# Altium schematic symbol library SCH-90818_A_Library.SchLib: 53 symbols
Pins are listed as number, name and electrical type; pins without a type are passive.

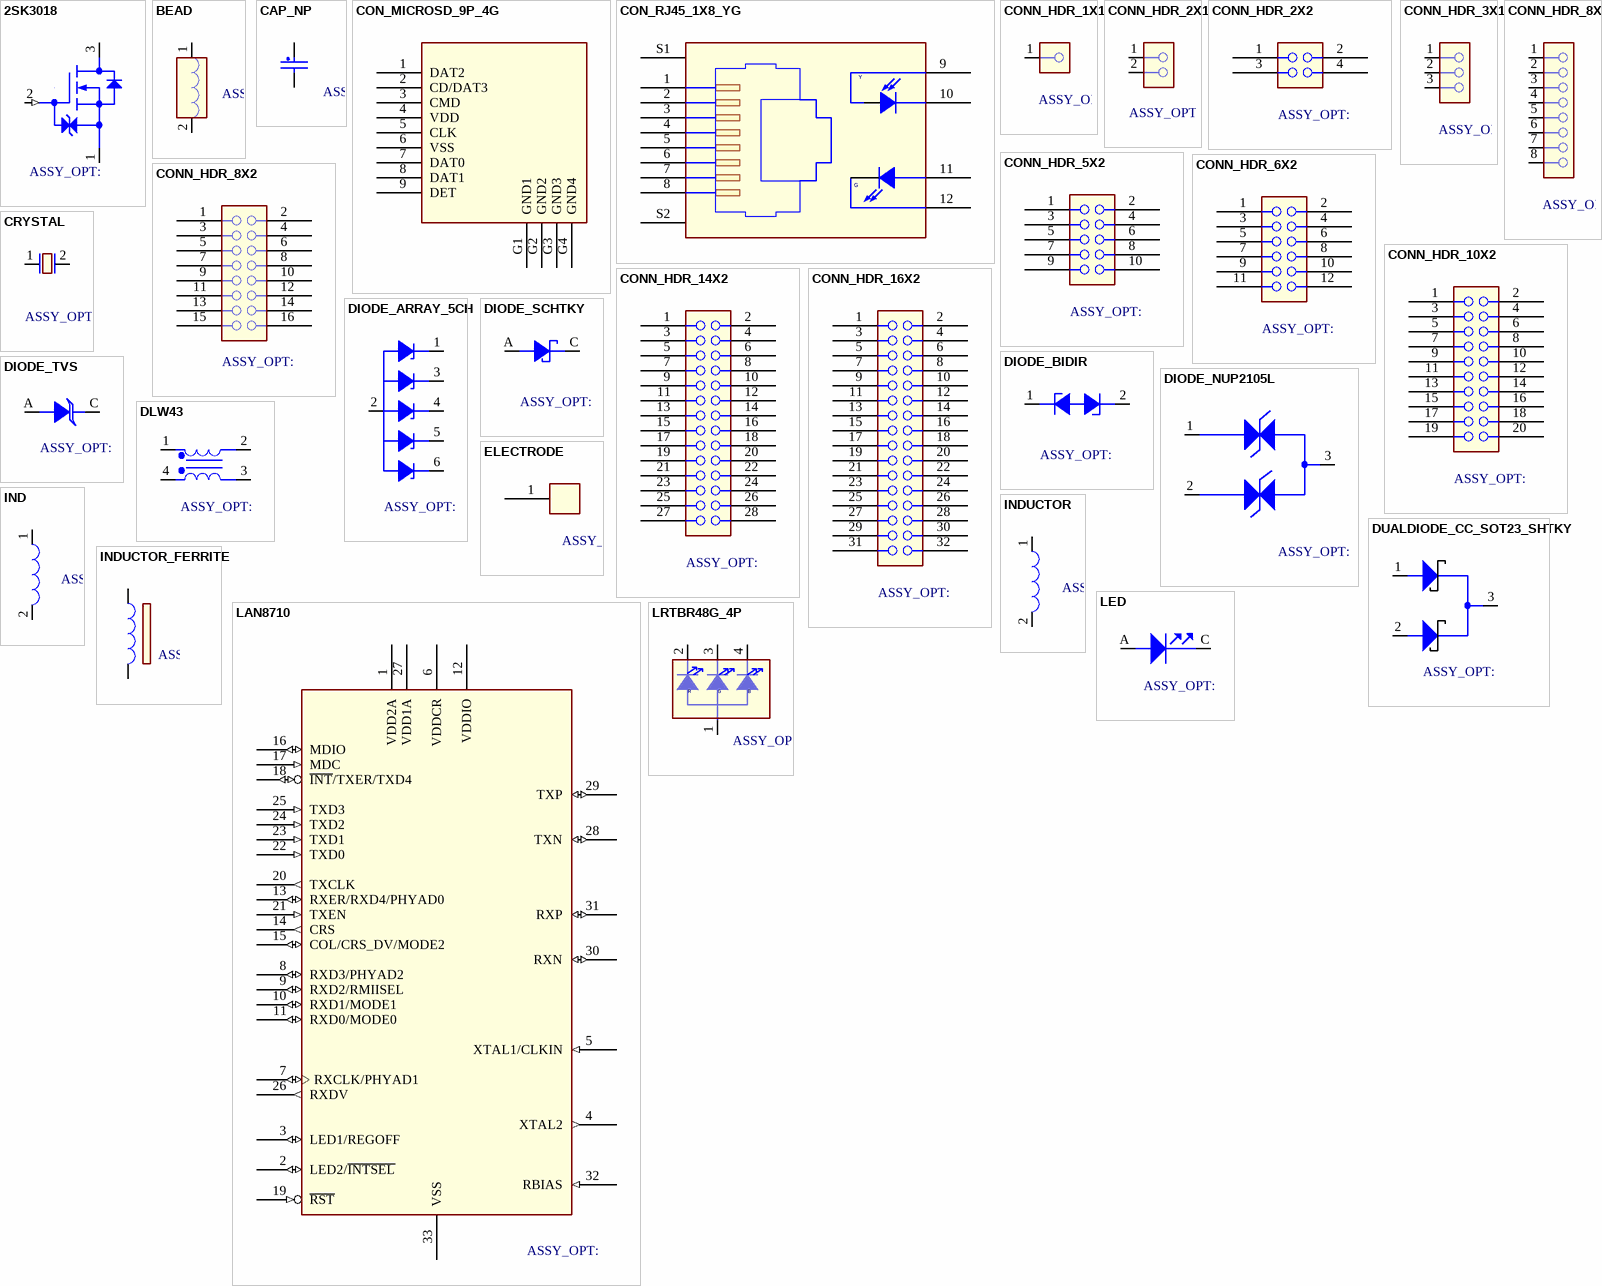
[diagram p0: symbols 2SK3018 to LRTBR48G_4P]

## 2SK3018
designator Q?
CLASS: IC
pins: 1 SOURCE, 2 GATE (in), 3 DRAIN

## BEAD
designator L?
CLASS: DISCRETE
pins: 1, 2

## CAP_NP
designator C?
CLASS: DISCRETE
pins: 1, 2

## CON_MICROSD_9P_4G
designator J?
CLASS: IO
pins: 1 DAT2, 2 CD/DAT3, 3 CMD, 4 VDD (power), 5 CLK, 6 VSS (power), 7 DAT0, 8 DAT1, 9 DET, G1 GND1 (power), G2 GND2 (power), G3 GND3 (power), G4 GND4 (power)

## CON_RJ45_1X8_YG
designator J?
CLASS: IO
pins: 1, 2, 3, 4, 5, 6, 7, 8, 9, 10, 11, 12, S1 SHIELD_1, S2 SHIELD_2
text: Y; G

## CONN_HDR_1X1
designator JP?
CLASS: IO
pins: 1

## CONN_HDR_2X1
designator J?
CLASS: IO
pins: 1, 2

## CONN_HDR_2X2
designator J?
CLASS: IO
pins: 1 A1, 2 B1, 3 A2, 4 B2

## CONN_HDR_3X1
designator J?
CLASS: IO
pins: 1, 2, 3

## CONN_HDR_5X2
designator J?
CLASS: IO
pins: 1 A1, 2 B1, 3 A2, 4 B2, 5 A3, 6 B3, 7 A4, 8 B4, 9 A5, 10 B5

## CONN_HDR_6X2
designator J?
CLASS: IO
pins: 1 A1, 2 B1, 3 A2, 4 B2, 5 A3, 6 B3, 7 A4, 8 B4, 9 A5, 10 B5, 11 A6, 12 B6

## CONN_HDR_8X1
designator J?
CLASS: IO
pins: 1, 2, 3, 4, 5, 6, 7, 8

## CONN_HDR_8X2
designator J?
CLASS: IO
pins: 1 A1, 2 B1, 3 A2, 4 B2, 5 A3, 6 B3, 7 A4, 8 B4, 9 A5, 10 B5, 11 A6, 12 B6, 13 A7, 14 B7, 15 A8, 16 B8

## CONN_HDR_10X2
designator J?
CLASS: IO
pins: 1, 2, 3, 4, 5, 6, 7, 8, 9, 10, 11, 12, 13, 14, 15, 16, 17, 18, 19, 20

## CONN_HDR_14X2
designator J?
CLASS: IO
pins: 1 A1, 2 B1, 3 A2, 4 B2, 5 A3, 6 B3, 7 A4, 8 B4, 9 A5, 10 B5, 11 A6, 12 B6, 13 A7, 14 B7, 15 A8, 16 B8, 17 A9, 18 B9, 19 A10, 20 B10, 21 A11, 22 B11, 23 A12, 24 B12, 25 A13, 26 B13, 27 A14, 28 B14

## CONN_HDR_16X2
designator J?
CLASS: IO
pins: 1 A1, 2 B1, 3 A2, 4 B2, 5 A3, 6 B3, 7 A4, 8 B4, 9 A5, 10 B5, 11 A6, 12 B6, 13 A7, 14 B7, 15 A8, 16 B8, 17 A9, 18 B9, 19 A10, 20 B10, 21 A11, 22 B11, 23 A12, 24 B12, 25 A13, 26 B13, 27 A14, 28 B14, 29 A15, 30 B15, 31 A16, 32 B16

## CRYSTAL
designator QZ?
CLASS: IC
pins: 1, 2

## DIODE_ARRAY_5CH
designator D?
CLASS: IC
pins: 1 K1, 2 A, 3 K2, 4 K3, 5 K4, 6 K5

## DIODE_BIDIR
designator D?
CLASS: IC
pins: 1 C1, 2 C2

## DIODE_NUP2105L
designator D?
CLASS: IC
pins: 1 CATHODE1, 2 CATHODE2, 3 ANODES

## DIODE_SCHTKY
designator D?
CLASS: IC
pins: A, C

## DIODE_TVS
designator D?
CLASS: IC
pins: A, C

## DLW43
designator L?
CLASS: DISCRETE
pins: 1, 2, 3, 4

## DUALDIODE_CC_SOT23_SHTKY
designator D?
CLASS: IC
pins: 1 A1, 2 A2, 3 C

## ELECTRODE
designator E?
CLASS: IC
pins: 1

## IND
designator L?
CLASS: DISCRETE
pins: 1, 2

## INDUCTOR
designator L?
CLASS: DISCRETE
pins: 1, 2

## INDUCTOR_FERRITE
designator L?
CLASS: DISCRETE
pins: 1, 2

## LAN8710
designator U?
CLASS: IC
pins: 1 VDD2A (power), 2 LED2/~{INTSEL} (io), 3 LED1/REGOFF (io), 4 XTAL2 (out), 5 XTAL1/CLKIN (in), 6 VDDCR (power), 7 RXCLK/PHYAD1 (io), 8 RXD3/PHYAD2 (io), 9 RXD2/RMIISEL (io), 10 RXD1/MODE1 (io), 11 RXD0/MODE0 (io), 12 VDDIO (power), 13 RXER/RXD4/PHYAD0 (io), 14 CRS (out), 15 COL/CRS_DV/MODE2 (io), 16 MDIO (io), 17 MDC (in), 18 ~{INT}/TXER/TXD4 (io), 19 ~{RST} (in), 20 TXCLK (out), 21 TXEN (in), 22 TXD0 (in), 23 TXD1 (in), 24 TXD2 (in), 25 TXD3 (in), 26 RXDV (out), 27 VDD1A (power), 28 TXN (io), 29 TXP (io), 30 RXN (io), 31 RXP (io), 32 RBIAS (in), 33 VSS (power)

## LED
designator D?
CLASS: IC
pins: A ANODE, C CATHODE

## LRTBR48G_4P
designator D?
CLASS: IC
pins: 1 ANODE, 2 CATHODE1, 3 CATHODE2, 4 CATHODE3
text: R; G; B

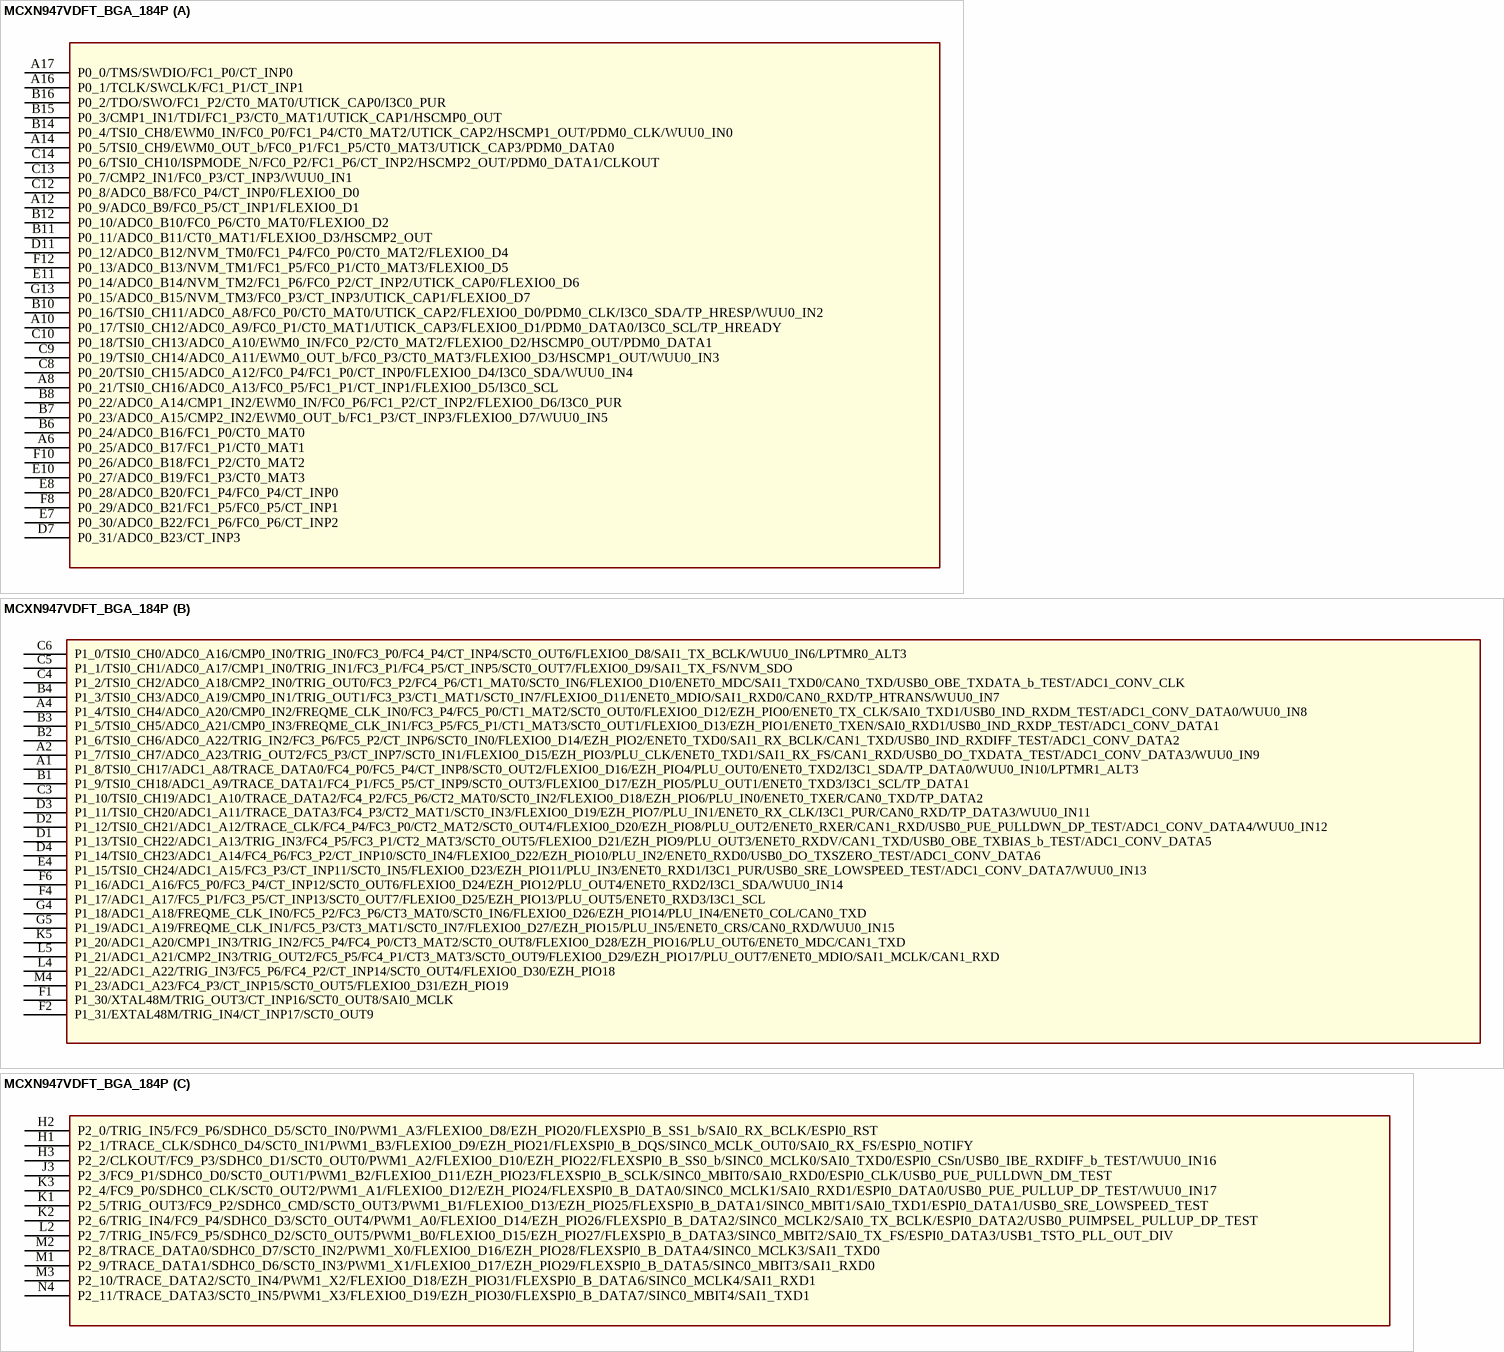
[diagram p1: symbol MCXN947VDFT_BGA_184P]

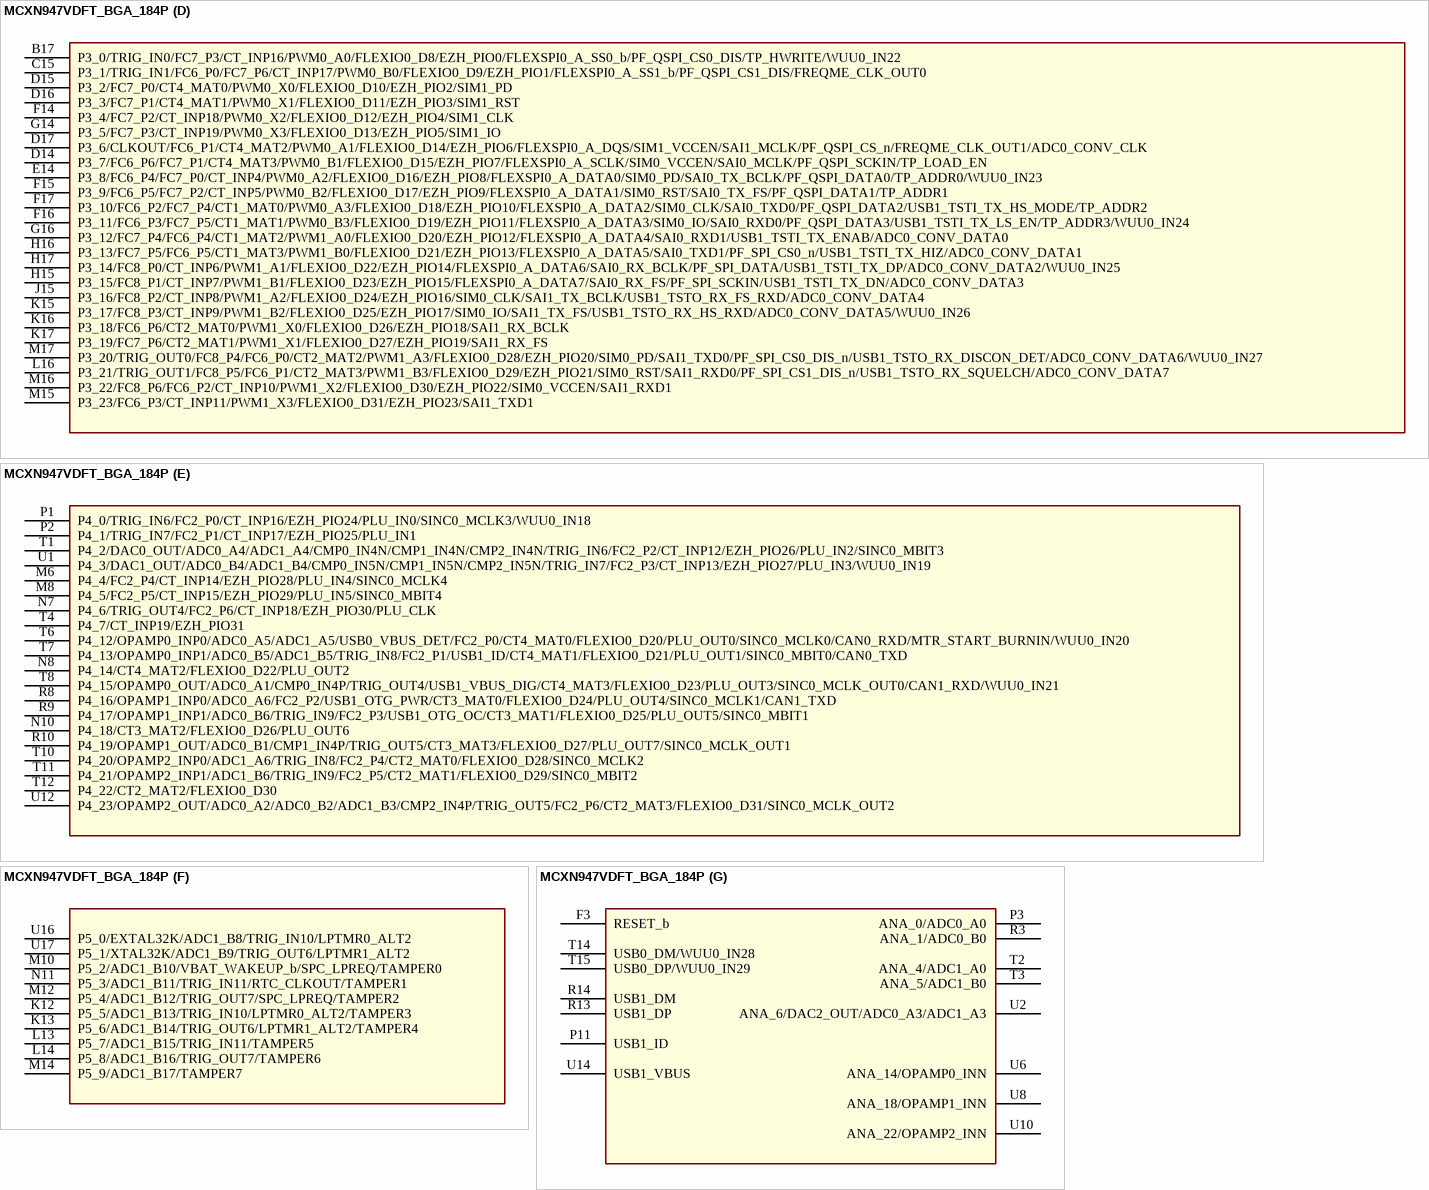
[diagram p2: symbol MCXN947VDFT_BGA_184P]

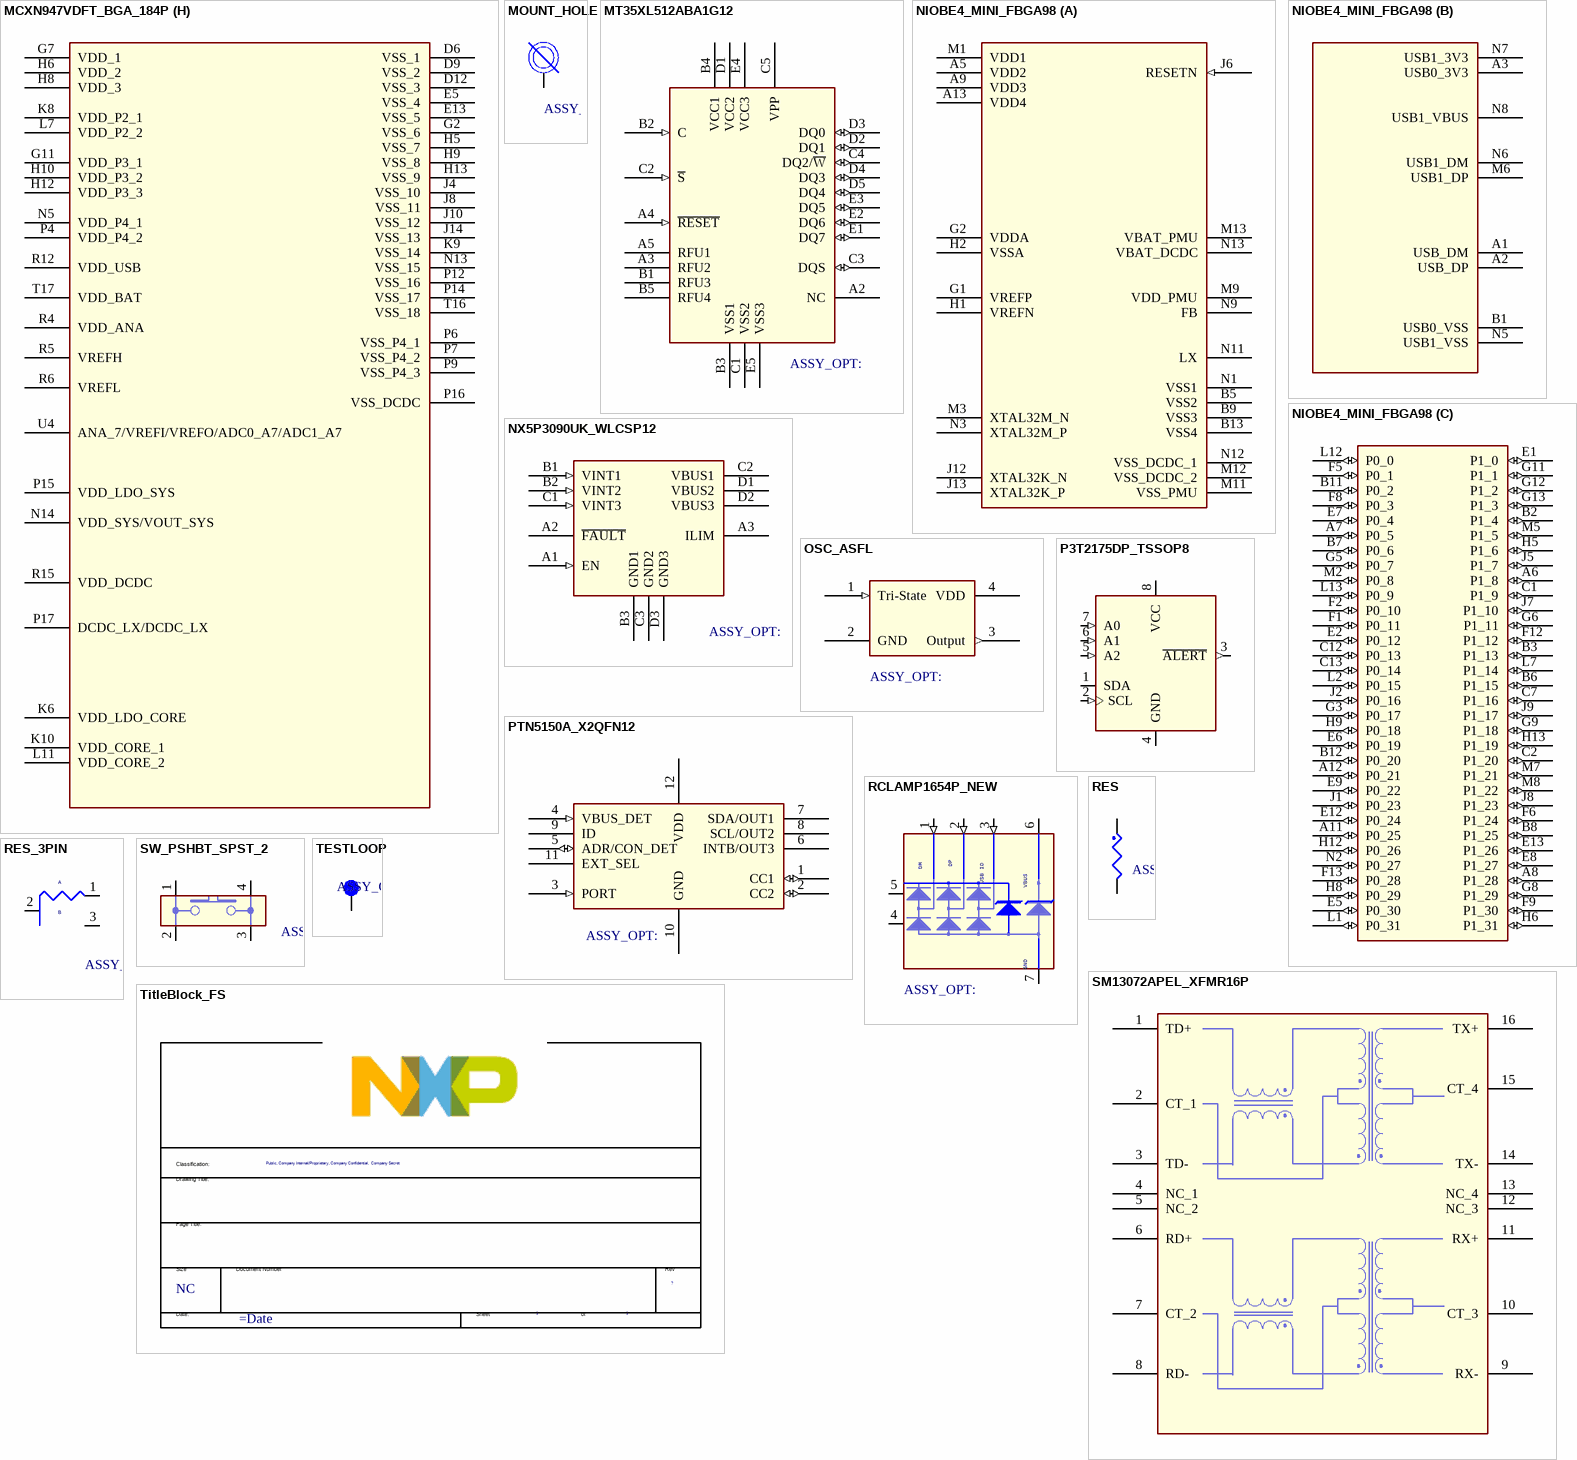
[diagram p3: symbols MCXN947VDFT_BGA_184P to TitleBlock_FS]

## MCXN947VDFT_BGA_184P
designator U?
CLASS: IC; SPLIT_INST: TRUE
part A pins: A6 P0_25/ADC0_B17/FC1_P1/CT0_MAT1, A8 P0_21/TSI0_CH16/ADC0_A13/FC0_P5/FC1_P1/CT_INP1/FLEXIO0_D5/I3C0_SCL, A10 P0_17/TSI0_CH12/ADC0_A9/FC0_P1/CT0_MAT1/UTICK_CAP3/FLEXIO0_D1/PDM0_DATA0/I3C0_SCL/TP_HREADY, A12 P0_9/ADC0_B9/FC0_P5/CT_INP1/FLEXIO0_D1, A14 P0_5/TSI0_CH9/EWM0_OUT_b/FC0_P1/FC1_P5/CT0_MAT3/UTICK_CAP3/PDM0_DATA0, A16 P0_1/TCLK/SWCLK/FC1_P1/CT_INP1, A17 P0_0/TMS/SWDIO/FC1_P0/CT_INP0, B6 P0_24/ADC0_B16/FC1_P0/CT0_MAT0, B7 P0_23/ADC0_A15/CMP2_IN2/EWM0_OUT_b/FC1_P3/CT_INP3/FLEXIO0_D7/WUU0_IN5, B8 P0_22/ADC0_A14/CMP1_IN2/EWM0_IN/FC0_P6/FC1_P2/CT_INP2/FLEXIO0_D6/I3C0_PUR, B10 P0_16/TSI0_CH11/ADC0_A8/FC0_P0/CT0_MAT0/UTICK_CAP2/FLEXIO0_D0/PDM0_CLK/I3C0_SDA/TP_HRESP/WUU0_IN2, B11 P0_11/ADC0_B11/CT0_MAT1/FLEXIO0_D3/HSCMP2_OUT, B12 P0_10/ADC0_B10/FC0_P6/CT0_MAT0/FLEXIO0_D2, B14 P0_4/TSI0_CH8/EWM0_IN/FC0_P0/FC1_P4/CT0_MAT2/UTICK_CAP2/HSCMP1_OUT/PDM0_CLK/WUU0_IN0, B15 P0_3/CMP1_IN1/TDI/FC1_P3/CT0_MAT1/UTICK_CAP1/HSCMP0_OUT, B16 P0_2/TDO/SWO/FC1_P2/CT0_MAT0/UTICK_CAP0/I3C0_PUR, C8 P0_20/TSI0_CH15/ADC0_A12/FC0_P4/FC1_P0/CT_INP0/FLEXIO0_D4/I3C0_SDA/WUU0_IN4, C9 P0_19/TSI0_CH14/ADC0_A11/EWM0_OUT_b/FC0_P3/CT0_MAT3/FLEXIO0_D3/HSCMP1_OUT/WUU0_IN3, C10 P0_18/TSI0_CH13/ADC0_A10/EWM0_IN/FC0_P2/CT0_MAT2/FLEXIO0_D2/HSCMP0_OUT/PDM0_DATA1, C12 P0_8/ADC0_B8/FC0_P4/CT_INP0/FLEXIO0_D0, C13 P0_7/CMP2_IN1/FC0_P3/CT_INP3/WUU0_IN1, C14 P0_6/TSI0_CH10/ISPMODE_N/FC0_P2/FC1_P6/CT_INP2/HSCMP2_OUT/PDM0_DATA1/CLKOUT, D7 P0_31/ADC0_B23/CT_INP3, D11 P0_12/ADC0_B12/NVM_TM0/FC1_P4/FC0_P0/CT0_MAT2/FLEXIO0_D4, E7 P0_30/ADC0_B22/FC1_P6/FC0_P6/CT_INP2, E8 P0_28/ADC0_B20/FC1_P4/FC0_P4/CT_INP0, E10 P0_27/ADC0_B19/FC1_P3/CT0_MAT3, E11 P0_14/ADC0_B14/NVM_TM2/FC1_P6/FC0_P2/CT_INP2/UTICK_CAP0/FLEXIO0_D6, F8 P0_29/ADC0_B21/FC1_P5/FC0_P5/CT_INP1, F10 P0_26/ADC0_B18/FC1_P2/CT0_MAT2, F12 P0_13/ADC0_B13/NVM_TM1/FC1_P5/FC0_P1/CT0_MAT3/FLEXIO0_D5, G13 P0_15/ADC0_B15/NVM_TM3/FC0_P3/CT_INP3/UTICK_CAP1/FLEXIO0_D7
part B pins: A1 P1_8/TSI0_CH17/ADC1_A8/TRACE_DATA0/FC4_P0/FC5_P4/CT_INP8/SCT0_OUT2/FLEXIO0_D16/EZH_PIO4/PLU_OUT0/ENET0_TXD2/I3C1_SDA/TP_DATA0/WUU0_IN10/LPTMR1_ALT3, A2 P1_7/TSI0_CH7/ADC0_A23/TRIG_OUT2/FC5_P3/CT_INP7/SCT0_IN1/FLEXIO0_D15/EZH_PIO3/PLU_CLK/ENET0_TXD1/SAI1_RX_FS/CAN1_RXD/USB0_DO_TXDATA_TEST/ADC1_CONV_DATA3/WUU0_IN9, A4 P1_4/TSI0_CH4/ADC0_A20/CMP0_IN2/FREQME_CLK_IN0/FC3_P4/FC5_P0/CT1_MAT2/SCT0_OUT0/FLEXIO0_D12/EZH_PIO0/ENET0_TX_CLK/SAI0_TXD1/USB0_IND_RXDM_TEST/ADC1_CONV_DATA0/WUU0_IN8, B1 P1_9/TSI0_CH18/ADC1_A9/TRACE_DATA1/FC4_P1/FC5_P5/CT_INP9/SCT0_OUT3/FLEXIO0_D17/EZH_PIO5/PLU_OUT1/ENET0_TXD3/I3C1_SCL/TP_DATA1, B2 P1_6/TSI0_CH6/ADC0_A22/TRIG_IN2/FC3_P6/FC5_P2/CT_INP6/SCT0_IN0/FLEXIO0_D14/EZH_PIO2/ENET0_TXD0/SAI1_RX_BCLK/CAN1_TXD/USB0_IND_RXDIFF_TEST/ADC1_CONV_DATA2, B3 P1_5/TSI0_CH5/ADC0_A21/CMP0_IN3/FREQME_CLK_IN1/FC3_P5/FC5_P1/CT1_MAT3/SCT0_OUT1/FLEXIO0_D13/EZH_PIO1/ENET0_TXEN/SAI0_RXD1/USB0_IND_RXDP_TEST/ADC1_CONV_DATA1, B4 P1_3/TSI0_CH3/ADC0_A19/CMP0_IN1/TRIG_OUT1/FC3_P3/CT1_MAT1/SCT0_IN7/FLEXIO0_D11/ENET0_MDIO/SAI1_RXD0/CAN0_RXD/TP_HTRANS/WUU0_IN7, C3 P1_10/TSI0_CH19/ADC1_A10/TRACE_DATA2/FC4_P2/FC5_P6/CT2_MAT0/SCT0_IN2/FLEXIO0_D18/EZH_PIO6/PLU_IN0/ENET0_TXER/CAN0_TXD/TP_DATA2, C4 P1_2/TSI0_CH2/ADC0_A18/CMP2_IN0/TRIG_OUT0/FC3_P2/FC4_P6/CT1_MAT0/SCT0_IN6/FLEXIO0_D10/ENET0_MDC/SAI1_TXD0/CAN0_TXD/USB0_OBE_TXDATA_b_TEST/ADC1_CONV_CLK, C5 P1_1/TSI0_CH1/ADC0_A17/CMP1_IN0/TRIG_IN1/FC3_P1/FC4_P5/CT_INP5/SCT0_OUT7/FLEXIO0_D9/SAI1_TX_FS/NVM_SDO, C6 P1_0/TSI0_CH0/ADC0_A16/CMP0_IN0/TRIG_IN0/FC3_P0/FC4_P4/CT_INP4/SCT0_OUT6/FLEXIO0_D8/SAI1_TX_BCLK/WUU0_IN6/LPTMR0_ALT3, D1 P1_13/TSI0_CH22/ADC1_A13/TRIG_IN3/FC4_P5/FC3_P1/CT2_MAT3/SCT0_OUT5/FLEXIO0_D21/EZH_PIO9/PLU_OUT3/ENET0_RXDV/CAN1_TXD/USB0_OBE_TXBIAS_b_TEST/ADC1_CONV_DATA5, D2 P1_12/TSI0_CH21/ADC1_A12/TRACE_CLK/FC4_P4/FC3_P0/CT2_MAT2/SCT0_OUT4/FLEXIO0_D20/EZH_PIO8/PLU_OUT2/ENET0_RXER/CAN1_RXD/USB0_PUE_PULLDWN_DP_TEST/ADC1_CONV_DATA4/WUU0_IN12, D3 P1_11/TSI0_CH20/ADC1_A11/TRACE_DATA3/FC4_P3/CT2_MAT1/SCT0_IN3/FLEXIO0_D19/EZH_PIO7/PLU_IN1/ENET0_RX_CLK/I3C1_PUR/CAN0_RXD/TP_DATA3/WUU0_IN11, D4 P1_14/TSI0_CH23/ADC1_A14/FC4_P6/FC3_P2/CT_INP10/SCT0_IN4/FLEXIO0_D22/EZH_PIO10/PLU_IN2/ENET0_RXD0/USB0_DO_TXSZERO_TEST/ADC1_CONV_DATA6, E4 P1_15/TSI0_CH24/ADC1_A15/FC3_P3/CT_INP11/SCT0_IN5/FLEXIO0_D23/EZH_PIO11/PLU_IN3/ENET0_RXD1/I3C1_PUR/USB0_SRE_LOWSPEED_TEST/ADC1_CONV_DATA7/WUU0_IN13, F1 P1_30/XTAL48M/TRIG_OUT3/CT_INP16/SCT0_OUT8/SAI0_MCLK, F2 P1_31/EXTAL48M/TRIG_IN4/CT_INP17/SCT0_OUT9, F4 P1_17/ADC1_A17/FC5_P1/FC3_P5/CT_INP13/SCT0_OUT7/FLEXIO0_D25/EZH_PIO13/PLU_OUT5/ENET0_RXD3/I3C1_SCL, F6 P1_16/ADC1_A16/FC5_P0/FC3_P4/CT_INP12/SCT0_OUT6/FLEXIO0_D24/EZH_PIO12/PLU_OUT4/ENET0_RXD2/I3C1_SDA/WUU0_IN14, G4 P1_18/ADC1_A18/FREQME_CLK_IN0/FC5_P2/FC3_P6/CT3_MAT0/SCT0_IN6/FLEXIO0_D26/EZH_PIO14/PLU_IN4/ENET0_COL/CAN0_TXD, G5 P1_19/ADC1_A19/FREQME_CLK_IN1/FC5_P3/CT3_MAT1/SCT0_IN7/FLEXIO0_D27/EZH_PIO15/PLU_IN5/ENET0_CRS/CAN0_RXD/WUU0_IN15, K5 P1_20/ADC1_A20/CMP1_IN3/TRIG_IN2/FC5_P4/FC4_P0/CT3_MAT2/SCT0_OUT8/FLEXIO0_D28/EZH_PIO16/PLU_OUT6/ENET0_MDC/CAN1_TXD, L4 P1_22/ADC1_A22/TRIG_IN3/FC5_P6/FC4_P2/CT_INP14/SCT0_OUT4/FLEXIO0_D30/EZH_PIO18, L5 P1_21/ADC1_A21/CMP2_IN3/TRIG_OUT2/FC5_P5/FC4_P1/CT3_MAT3/SCT0_OUT9/FLEXIO0_D29/EZH_PIO17/PLU_OUT7/ENET0_MDIO/SAI1_MCLK/CAN1_RXD, M4 P1_23/ADC1_A23/FC4_P3/CT_INP15/SCT0_OUT5/FLEXIO0_D31/EZH_PIO19
part C pins: H1 P2_1/TRACE_CLK/SDHC0_D4/SCT0_IN1/PWM1_B3/FLEXIO0_D9/EZH_PIO21/FLEXSPI0_B_DQS/SINC0_MCLK_OUT0/SAI0_RX_FS/ESPI0_NOTIFY, H2 P2_0/TRIG_IN5/FC9_P6/SDHC0_D5/SCT0_IN0/PWM1_A3/FLEXIO0_D8/EZH_PIO20/FLEXSPI0_B_SS1_b/SAI0_RX_BCLK/ESPI0_RST, H3 P2_2/CLKOUT/FC9_P3/SDHC0_D1/SCT0_OUT0/PWM1_A2/FLEXIO0_D10/EZH_PIO22/FLEXSPI0_B_SS0_b/SINC0_MCLK0/SAI0_TXD0/ESPI0_CSn/USB0_IBE_RXDIFF_b_TEST/WUU0_IN16, J3 P2_3/FC9_P1/SDHC0_D0/SCT0_OUT1/PWM1_B2/FLEXIO0_D11/EZH_PIO23/FLEXSPI0_B_SCLK/SINC0_MBIT0/SAI0_RXD0/ESPI0_CLK/USB0_PUE_PULLDWN_DM_TEST, K1 P2_5/TRIG_OUT3/FC9_P2/SDHC0_CMD/SCT0_OUT3/PWM1_B1/FLEXIO0_D13/EZH_PIO25/FLEXSPI0_B_DATA1/SINC0_MBIT1/SAI0_TXD1/ESPI0_DATA1/USB0_SRE_LOWSPEED_TEST, K2 P2_6/TRIG_IN4/FC9_P4/SDHC0_D3/SCT0_OUT4/PWM1_A0/FLEXIO0_D14/EZH_PIO26/FLEXSPI0_B_DATA2/SINC0_MCLK2/SAI0_TX_BCLK/ESPI0_DATA2/USB0_PUIMPSEL_PULLUP_DP_TEST, K3 P2_4/FC9_P0/SDHC0_CLK/SCT0_OUT2/PWM1_A1/FLEXIO0_D12/EZH_PIO24/FLEXSPI0_B_DATA0/SINC0_MCLK1/SAI0_RXD1/ESPI0_DATA0/USB0_PUE_PULLUP_DP_TEST/WUU0_IN17, L2 P2_7/TRIG_IN5/FC9_P5/SDHC0_D2/SCT0_OUT5/PWM1_B0/FLEXIO0_D15/EZH_PIO27/FLEXSPI0_B_DATA3/SINC0_MBIT2/SAI0_TX_FS/ESPI0_DATA3/USB1_TSTO_PLL_OUT_DIV, M1 P2_9/TRACE_DATA1/SDHC0_D6/SCT0_IN3/PWM1_X1/FLEXIO0_D17/EZH_PIO29/FLEXSPI0_B_DATA5/SINC0_MBIT3/SAI1_RXD0, M2 P2_8/TRACE_DATA0/SDHC0_D7/SCT0_IN2/PWM1_X0/FLEXIO0_D16/EZH_PIO28/FLEXSPI0_B_DATA4/SINC0_MCLK3/SAI1_TXD0, M3 P2_10/TRACE_DATA2/SCT0_IN4/PWM1_X2/FLEXIO0_D18/EZH_PIO31/FLEXSPI0_B_DATA6/SINC0_MCLK4/SAI1_RXD1, N4 P2_11/TRACE_DATA3/SCT0_IN5/PWM1_X3/FLEXIO0_D19/EZH_PIO30/FLEXSPI0_B_DATA7/SINC0_MBIT4/SAI1_TXD1
part D pins: B17 P3_0/TRIG_IN0/FC7_P3/CT_INP16/PWM0_A0/FLEXIO0_D8/EZH_PIO0/FLEXSPI0_A_SS0_b/PF_QSPI_CS0_DIS/TP_HWRITE/WUU0_IN22, C15 P3_1/TRIG_IN1/FC6_P0/FC7_P6/CT_INP17/PWM0_B0/FLEXIO0_D9/EZH_PIO1/FLEXSPI0_A_SS1_b/PF_QSPI_CS1_DIS/FREQME_CLK_OUT0, D14 P3_7/FC6_P6/FC7_P1/CT4_MAT3/PWM0_B1/FLEXIO0_D15/EZH_PIO7/FLEXSPI0_A_SCLK/SIM0_VCCEN/SAI0_MCLK/PF_QSPI_SCKIN/TP_LOAD_EN, D15 P3_2/FC7_P0/CT4_MAT0/PWM0_X0/FLEXIO0_D10/EZH_PIO2/SIM1_PD, D16 P3_3/FC7_P1/CT4_MAT1/PWM0_X1/FLEXIO0_D11/EZH_PIO3/SIM1_RST, D17 P3_6/CLKOUT/FC6_P1/CT4_MAT2/PWM0_A1/FLEXIO0_D14/EZH_PIO6/FLEXSPI0_A_DQS/SIM1_VCCEN/SAI1_MCLK/PF_QSPI_CS_n/FREQME_CLK_OUT1/ADC0_CONV_CLK, E14 P3_8/FC6_P4/FC7_P0/CT_INP4/PWM0_A2/FLEXIO0_D16/EZH_PIO8/FLEXSPI0_A_DATA0/SIM0_PD/SAI0_TX_BCLK/PF_QSPI_DATA0/TP_ADDR0/WUU0_IN23, F14 P3_4/FC7_P2/CT_INP18/PWM0_X2/FLEXIO0_D12/EZH_PIO4/SIM1_CLK, F15 P3_9/FC6_P5/FC7_P2/CT_INP5/PWM0_B2/FLEXIO0_D17/EZH_PIO9/FLEXSPI0_A_DATA1/SIM0_RST/SAI0_TX_FS/PF_QSPI_DATA1/TP_ADDR1, F16 P3_11/FC6_P3/FC7_P5/CT1_MAT1/PWM0_B3/FLEXIO0_D19/EZH_PIO11/FLEXSPI0_A_DATA3/SIM0_IO/SAI0_RXD0/PF_QSPI_DATA3/USB1_TSTI_TX_LS_EN/TP_ADDR3/WUU0_IN24, F17 P3_10/FC6_P2/FC7_P4/CT1_MAT0/PWM0_A3/FLEXIO0_D18/EZH_PIO10/FLEXSPI0_A_DATA2/SIM0_CLK/SAI0_TXD0/PF_QSPI_DATA2/USB1_TSTI_TX_HS_MODE/TP_ADDR2, G14 P3_5/FC7_P3/CT_INP19/PWM0_X3/FLEXIO0_D13/EZH_PIO5/SIM1_IO, G16 P3_12/FC7_P4/FC6_P4/CT1_MAT2/PWM1_A0/FLEXIO0_D20/EZH_PIO12/FLEXSPI0_A_DATA4/SAI0_RXD1/USB1_TSTI_TX_ENAB/ADC0_CONV_DATA0, H15 P3_15/FC8_P1/CT_INP7/PWM1_B1/FLEXIO0_D23/EZH_PIO15/FLEXSPI0_A_DATA7/SAI0_RX_FS/PF_SPI_SCKIN/USB1_TSTI_TX_DN/ADC0_CONV_DATA3, H16 P3_13/FC7_P5/FC6_P5/CT1_MAT3/PWM1_B0/FLEXIO0_D21/EZH_PIO13/FLEXSPI0_A_DATA5/SAI0_TXD1/PF_SPI_CS0_n/USB1_TSTI_TX_HIZ/ADC0_CONV_DATA1, H17 P3_14/FC8_P0/CT_INP6/PWM1_A1/FLEXIO0_D22/EZH_PIO14/FLEXSPI0_A_DATA6/SAI0_RX_BCLK/PF_SPI_DATA/USB1_TSTI_TX_DP/ADC0_CONV_DATA2/WUU0_IN25, J15 P3_16/FC8_P2/CT_INP8/PWM1_A2/FLEXIO0_D24/EZH_PIO16/SIM0_CLK/SAI1_TX_BCLK/USB1_TSTO_RX_FS_RXD/ADC0_CONV_DATA4, K15 P3_17/FC8_P3/CT_INP9/PWM1_B2/FLEXIO0_D25/EZH_PIO17/SIM0_IO/SAI1_TX_FS/USB1_TSTO_RX_HS_RXD/ADC0_CONV_DATA5/WUU0_IN26, K16 P3_18/FC6_P6/CT2_MAT0/PWM1_X0/FLEXIO0_D26/EZH_PIO18/SAI1_RX_BCLK, K17 P3_19/FC7_P6/CT2_MAT1/PWM1_X1/FLEXIO0_D27/EZH_PIO19/SAI1_RX_FS, L16 P3_21/TRIG_OUT1/FC8_P5/FC6_P1/CT2_MAT3/PWM1_B3/FLEXIO0_D29/EZH_PIO21/SIM0_RST/SAI1_RXD0/PF_SPI_CS1_DIS_n/USB1_TSTO_RX_SQUELCH/ADC0_CONV_DATA7, M15 P3_23/FC6_P3/CT_INP11/PWM1_X3/FLEXIO0_D31/EZH_PIO23/SAI1_TXD1, M16 P3_22/FC8_P6/FC6_P2/CT_INP10/PWM1_X2/FLEXIO0_D30/EZH_PIO22/SIM0_VCCEN/SAI1_RXD1, M17 P3_20/TRIG_OUT0/FC8_P4/FC6_P0/CT2_MAT2/PWM1_A3/FLEXIO0_D28/EZH_PIO20/SIM0_PD/SAI1_TXD0/PF_SPI_CS0_DIS_n/USB1_TSTO_RX_DISCON_DET/ADC0_CONV_DATA6/WUU0_IN27
part E pins: M6 P4_4/FC2_P4/CT_INP14/EZH_PIO28/PLU_IN4/SINC0_MCLK4, M8 P4_5/FC2_P5/CT_INP15/EZH_PIO29/PLU_IN5/SINC0_MBIT4, N7 P4_6/TRIG_OUT4/FC2_P6/CT_INP18/EZH_PIO30/PLU_CLK, N8 P4_14/CT4_MAT2/FLEXIO0_D22/PLU_OUT2, N10 P4_18/CT3_MAT2/FLEXIO0_D26/PLU_OUT6, P1 P4_0/TRIG_IN6/FC2_P0/CT_INP16/EZH_PIO24/PLU_IN0/SINC0_MCLK3/WUU0_IN18, P2 P4_1/TRIG_IN7/FC2_P1/CT_INP17/EZH_PIO25/PLU_IN1, R8 P4_16/OPAMP1_INP0/ADC0_A6/FC2_P2/USB1_OTG_PWR/CT3_MAT0/FLEXIO0_D24/PLU_OUT4/SINC0_MCLK1/CAN1_TXD, R9 P4_17/OPAMP1_INP1/ADC0_B6/TRIG_IN9/FC2_P3/USB1_OTG_OC/CT3_MAT1/FLEXIO0_D25/PLU_OUT5/SINC0_MBIT1, R10 P4_19/OPAMP1_OUT/ADC0_B1/CMP1_IN4P/TRIG_OUT5/CT3_MAT3/FLEXIO0_D27/PLU_OUT7/SINC0_MCLK_OUT1, T1 P4_2/DAC0_OUT/ADC0_A4/ADC1_A4/CMP0_IN4N/CMP1_IN4N/CMP2_IN4N/TRIG_IN6/FC2_P2/CT_INP12/EZH_PIO26/PLU_IN2/SINC0_MBIT3, T4 P4_7/CT_INP19/EZH_PIO31, T6 P4_12/OPAMP0_INP0/ADC0_A5/ADC1_A5/USB0_VBUS_DET/FC2_P0/CT4_MAT0/FLEXIO0_D20/PLU_OUT0/SINC0_MCLK0/CAN0_RXD/MTR_START_BURNIN/WUU0_IN20, T7 P4_13/OPAMP0_INP1/ADC0_B5/ADC1_B5/TRIG_IN8/FC2_P1/USB1_ID/CT4_MAT1/FLEXIO0_D21/PLU_OUT1/SINC0_MBIT0/CAN0_TXD, T8 P4_15/OPAMP0_OUT/ADC0_A1/CMP0_IN4P/TRIG_OUT4/USB1_VBUS_DIG/CT4_MAT3/FLEXIO0_D23/PLU_OUT3/SINC0_MCLK_OUT0/CAN1_RXD/WUU0_IN21, T10 P4_20/OPAMP2_INP0/ADC1_A6/TRIG_IN8/FC2_P4/CT2_MAT0/FLEXIO0_D28/SINC0_MCLK2, T11 P4_21/OPAMP2_INP1/ADC1_B6/TRIG_IN9/FC2_P5/CT2_MAT1/FLEXIO0_D29/SINC0_MBIT2, T12 P4_22/CT2_MAT2/FLEXIO0_D30, U1 P4_3/DAC1_OUT/ADC0_B4/ADC1_B4/CMP0_IN5N/CMP1_IN5N/CMP2_IN5N/TRIG_IN7/FC2_P3/CT_INP13/EZH_PIO27/PLU_IN3/WUU0_IN19, U12 P4_23/OPAMP2_OUT/ADC0_A2/ADC0_B2/ADC1_B3/CMP2_IN4P/TRIG_OUT5/FC2_P6/CT2_MAT3/FLEXIO0_D31/SINC0_MCLK_OUT2
part F pins: K12 P5_5/ADC1_B13/TRIG_IN10/LPTMR0_ALT2/TAMPER3, K13 P5_6/ADC1_B14/TRIG_OUT6/LPTMR1_ALT2/TAMPER4, L13 P5_7/ADC1_B15/TRIG_IN11/TAMPER5, L14 P5_8/ADC1_B16/TRIG_OUT7/TAMPER6, M10 P5_2/ADC1_B10/VBAT_WAKEUP_b/SPC_LPREQ/TAMPER0, M12 P5_4/ADC1_B12/TRIG_OUT7/SPC_LPREQ/TAMPER2, M14 P5_9/ADC1_B17/TAMPER7, N11 P5_3/ADC1_B11/TRIG_IN11/RTC_CLKOUT/TAMPER1, U16 P5_0/EXTAL32K/ADC1_B8/TRIG_IN10/LPTMR0_ALT2, U17 P5_1/XTAL32K/ADC1_B9/TRIG_OUT6/LPTMR1_ALT2
part G pins: F3 RESET_b, P3 ANA_0/ADC0_A0, P11 USB1_ID, R3 ANA_1/ADC0_B0, R13 USB1_DP, R14 USB1_DM, T2 ANA_4/ADC1_A0, T3 ANA_5/ADC1_B0, T14 USB0_DM/WUU0_IN28, T15 USB0_DP/WUU0_IN29, U2 ANA_6/DAC2_OUT/ADC0_A3/ADC1_A3, U6 ANA_14/OPAMP0_INN, U8 ANA_18/OPAMP1_INN, U10 ANA_22/OPAMP2_INN, U14 USB1_VBUS
part H pins: D6 VSS_1, D9 VSS_2, D12 VSS_3, E5 VSS_4, E13 VSS_5, G2 VSS_6, G7 VDD_1, G11 VDD_P3_1, H5 VSS_7, H6 VDD_2, H8 VDD_3, H9 VSS_8, H10 VDD_P3_2, H12 VDD_P3_3, H13 VSS_9, J4 VSS_10, J8 VSS_11, J10 VSS_12, J14 VSS_13, K6 VDD_LDO_CORE, K8 VDD_P2_1, K9 VSS_14, K10 VDD_CORE_1, L7 VDD_P2_2, L11 VDD_CORE_2, N5 VDD_P4_1, N13 VSS_15, N14 VDD_SYS/VOUT_SYS, P4 VDD_P4_2, P6 VSS_P4_1, P7 VSS_P4_2, P9 VSS_P4_3, P12 VSS_16, P14 VSS_17, P15 VDD_LDO_SYS, P16 VSS_DCDC, P17 DCDC_LX/DCDC_LX, R4 VDD_ANA, R5 VREFH, R6 VREFL, R12 VDD_USB, R15 VDD_DCDC, T16 VSS_18, T17 VDD_BAT, U4 ANA_7/VREFI/VREFO/ADC0_A7/ADC1_A7

## MOUNT_HOLE
designator BH?
CLASS: IC
pins: 1

## MT35XL512ABA1G12
designator U?
CLASS: IC
pins: A2 NC, A3 RFU2, A4 ~{RESET} (in), A5 RFU1, B1 RFU3, B2 C (in), B3 VSS1 (power), B4 VCC1 (power), B5 RFU4, C1 VSS2 (power), C2 ~{S} (in), C3 DQS (io), C4 DQ2/~{W} (io), C5 VPP (power), D1 VCC2 (power), D2 DQ1 (io), D3 DQ0 (io), D4 DQ3 (io), D5 DQ4 (io), E1 DQ7 (io), E2 DQ6 (io), E3 DQ5 (io), E4 VCC3 (power), E5 VSS3 (power)

## NIOBE4_MINI_FBGA98
designator U?
CLASS: IC
part A pins: A5 VDD2 (power), A9 VDD3 (power), A13 VDD4 (power), B5 VSS2 (power), B9 VSS3 (power), B13 VSS4 (power), G1 VREFP (power), G2 VDDA (power), H1 VREFN (power), H2 VSSA (power), J6 RESETN (in), J12 XTAL32K_N, J13 XTAL32K_P, M1 VDD1 (power), M3 XTAL32M_N, M9 VDD_PMU (power), M11 VSS_PMU (power), M12 VSS_DCDC_2 (power), M13 VBAT_PMU (power), N1 VSS1 (power), N3 XTAL32M_P, N9 FB, N11 LX, N12 VSS_DCDC_1 (power), N13 VBAT_DCDC (power)
part B pins: A1 USB_DM, A2 USB_DP, A3 USB0_3V3 (power), B1 USB0_VSS (power), M6 USB1_DP, N5 USB1_VSS (power), N6 USB1_DM, N7 USB1_3V3 (power), N8 USB1_VBUS
part C pins: A6 P1_8 (io), A7 P0_5 (io), A8 P1_28 (io), A11 P0_25 (io), A12 P0_21 (io), B2 P1_4 (io), B3 P1_13 (io), B6 P1_15 (io), B7 P0_6 (io), B8 P1_25 (io), B11 P0_2 (io), B12 P0_20 (io), C1 P1_9 (io), C2 P1_20 (io), C7 P1_16 (io), C12 P0_13 (io), C13 P0_14 (io), E1 P1_0 (io), E2 P0_12 (io), E5 P0_30 (io), E6 P0_19 (io), E7 P0_4 (io), E8 P1_27 (io), E9 P0_22 (io), E12 P0_24 (io), E13 P1_26 (io), F1 P0_11 (io), F2 P0_10 (io), F5 P0_1 (io), F6 P1_24 (io), F8 P0_3 (io), F9 P1_30 (io), F12 P1_12 (io), F13 P0_28 (io), G3 P0_17 (io), G5 P0_7 (io), G6 P1_11 (io), G8 P1_29 (io), G9 P1_18 (io), G11 P1_1 (io), G12 P1_2 (io), G13 P1_3 (io), H5 P1_6 (io), H6 P1_31 (io), H8 P0_29 (io), H9 P0_18 (io), H12 P0_26 (io), H13 P1_19 (io), J1 P0_23 (io), J2 P0_16 (io), J5 P1_7 (io), J7 P1_10 (io), J8 P1_23 (io), J9 P1_17 (io), L1 P0_31 (io), L2 P0_15 (io), L7 P1_14 (io), L12 P0_0 (io), L13 P0_9 (io), M2 P0_8 (io), M5 P1_5 (io), M7 P1_21 (io), M8 P1_22 (io), N2 P0_27 (io)

## NX5P3090UK_WLCSP12
designator U?
CLASS: IC
pins: A1 EN (in), A2 ~{FAULT} (oc), A3 ILIM, B1 VINT1 (in), B2 VINT2 (in), B3 GND1 (power), C1 VINT3 (in), C2 VBUS1, C3 GND2 (power), D1 VBUS2, D2 VBUS3, D3 GND3 (power)

## OSC_ASFL
designator Y?
CLASS: IC
pins: 1 Tri-State (in), 2 GND (power), 3 Output (out), 4 VDD (power)

## P3T2175DP_TSSOP8
designator U?
CLASS: IC
pins: 1 SDA (io), 2 SCL (in), 3 ~{ALERT} (out), 4 GND (power), 5 A2 (in), 6 A1 (in), 7 A0 (in), 8 VCC (power)

## PTN5150A_X2QFN12
designator U?
CLASS: IC
pins: 1 CC1 (io), 2 CC2 (io), 3 PORT (in), 4 VBUS_DET (in), 5 ADR/CON_DET (io), 6 INTB/OUT3 (oc), 7 SDA/OUT1 (oc), 8 SCL/OUT2 (oc), 9 ID (oc), 10 GND (power), 11 EXT_SEL (oc), 12 VDD (power)

## RCLAMP1654P_NEW
designator U?
CLASS: IC
pins: 1 DM (in), 2 DP (in), 3 USB ID (in), 4 NC1, 5 NC2, 6 VBUS (power), 7 GND (power)

## RES
designator R?
CLASS: DISCRETE
pins: 1, 2

## RES_3PIN
designator R?
CLASS: DISCRETE
pins: 1, 2, 3
text: A; B

## SM13072APEL_XFMR16P
designator U?
CLASS: IC
pins: 1 TD+, 2 CT_1, 3 TD-, 4 NC_1, 5 NC_2, 6 RD+, 7 CT_2, 8 RD-, 9 RX-, 10 CT_3, 11 RX+, 12 NC_3, 13 NC_4, 14 TX-, 15 CT_4, 16 TX+

## SW_PSHBT_SPST_2
designator SW?
CLASS: IC
pins: 1, 2, 3, 4

## TESTLOOP
designator TP?  (value not drawn)
CLASS: IO
pins: 1 Pin1

## TitleBlock_FS
designator *  Classification: Public, Company Internal/Proprietary, Company Confidential,  Company Secret  Page Size: NC  Page Number: 1  (hidden comment: *)  (graphical)
Page Create Date: March  8, 1995; RevCode: ?; Page Count: 1; Page Modify Date: =Date
text: Classification:; Drawing Title:; Page Title:; Size; Document Number; Rev; Date:; Sheet; of

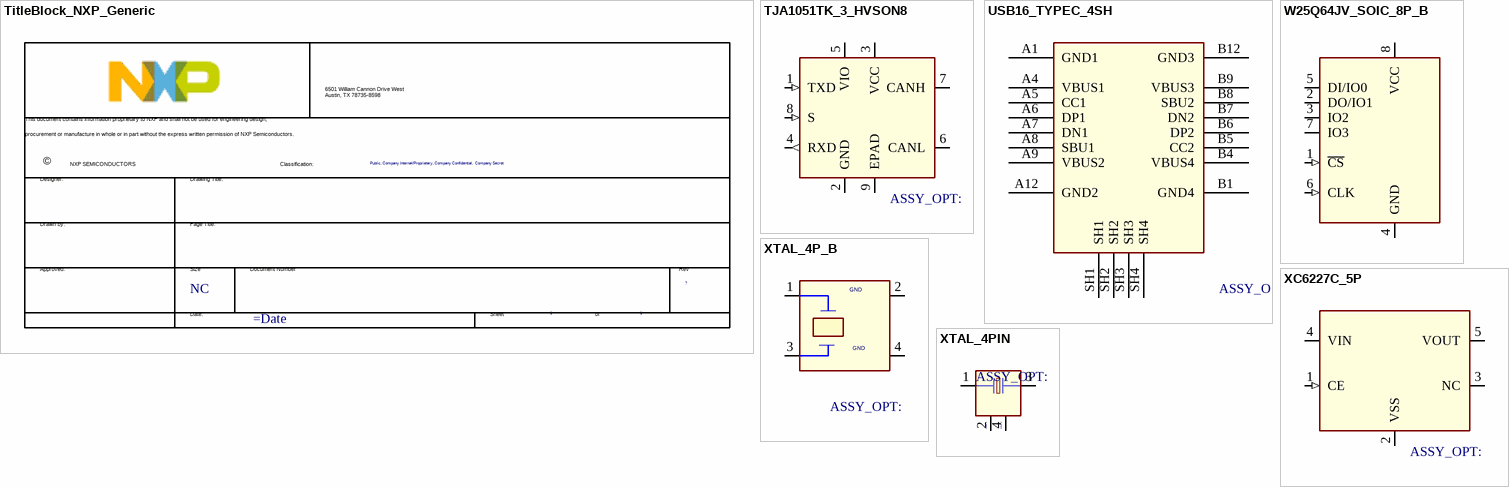
[diagram p4: symbols TitleBlock_NXP_Generic to XTAL_4PIN]

## TitleBlock_NXP_Generic
designator *  Classification: Public, Company Internal/Proprietary, Company Confidential,  Company Secret  Page Count: 1  Page Size: NC  (hidden comment: *)  (graphical)
Page Number: 1; RevCode: ?; Page Create Date: March  8, 1995; Page Modify Date: =Date
text: 6501 William Cannon Drive West / Austin, TX 78735-8598; This document contains information proprietary to NXP and shall not be used for engineering design,; procurement or manufacture in whole or in part without the express written permission of NXP Semiconductors.; ©; NXP SEMICONDUCTORS; Classification:; Designer:; Drawing Title:; Drawn by:; Page Title:; Approved:; Size; Document Number; Rev; Date:; Sheet; of

## TJA1051TK_3_HVSON8
designator U?
CLASS: IC
pins: 1 TXD (in), 2 GND (power), 3 VCC (power), 4 RXD (out), 5 VIO (power), 6 CANL (io), 7 CANH (io), 8 S (in), 9 EPAD (power)

## USB16_TYPEC_4SH
designator J?
CLASS: IO
pins: A1 GND1 (power), A4 VBUS1, A5 CC1, A6 DP1, A7 DN1, A8 SBU1, A9 VBUS2, A12 GND2 (power), B1 GND4 (power), B4 VBUS4, B5 CC2, B6 DP2, B7 DN2, B8 SBU2, B9 VBUS3, B12 GND3 (power), SH1 (power), SH2 (power), SH3 (power), SH4 (power)

## W25Q64JV_SOIC_8P_B
designator U?
CLASS: IC
pins: 1 ~{CS} (in), 2 DO/IO1 (io), 3 IO2 (io), 4 GND (power), 5 DI/IO0 (io), 6 CLK (in), 7 IO3 (io), 8 VCC (power)

## XC6227C_5P
designator U?
CLASS: IC
pins: 1 CE (in), 2 VSS (power), 3 NC, 4 VIN (power), 5 VOUT (power)

## XTAL_4P_B
designator X?
CLASS: IC
pins: 1, 2 (power), 3, 4 (power)
text: GND

## XTAL_4PIN
designator Y?
CLASS: IC
pins: 1, 2 GND1 (power), 3, 4 GND2 (power)